# Altium schematic symbol library IC-4XXX.SchLib: 9 symbols
Pins are listed as number, name and electrical type; pins without a type are passive.

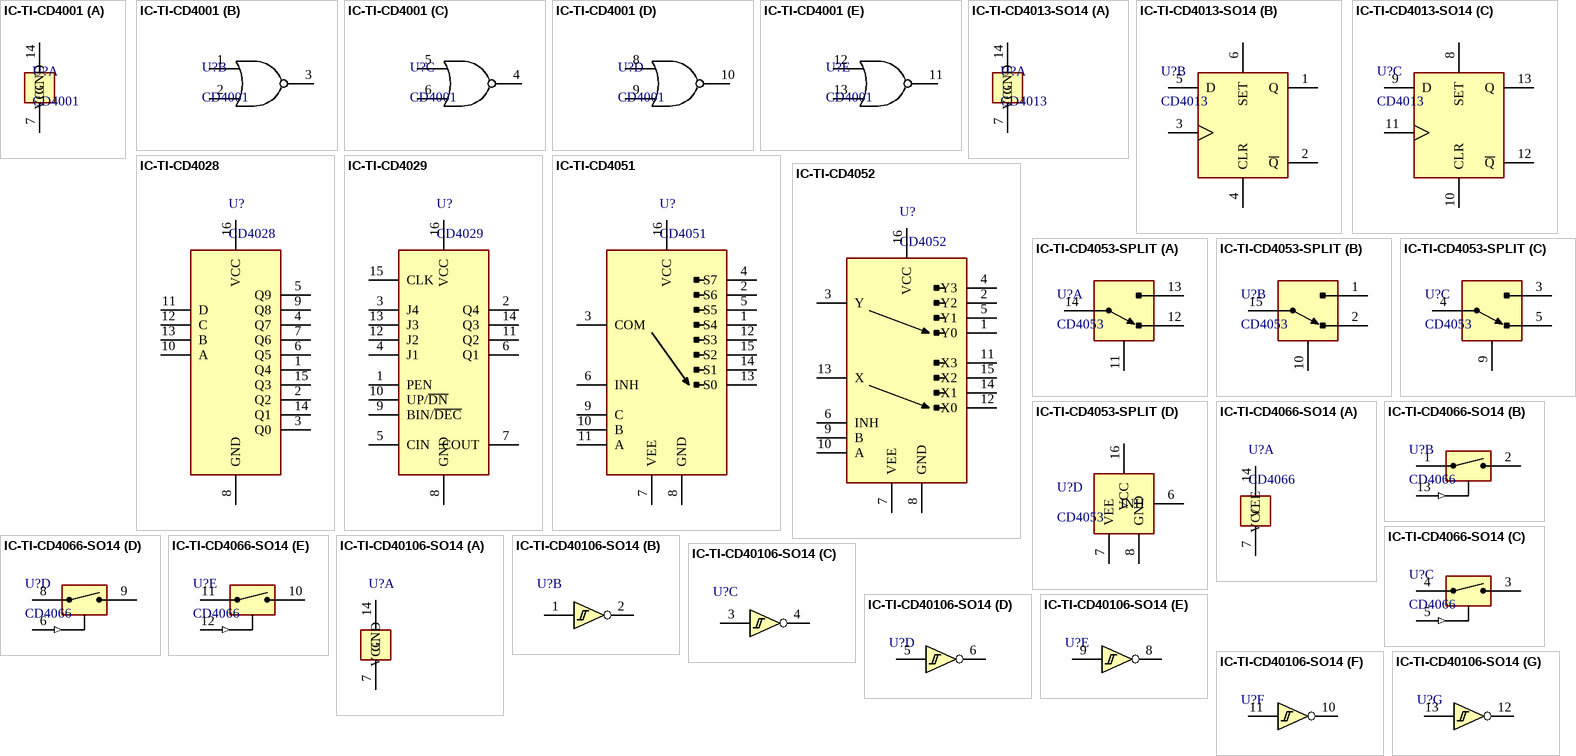
[diagram p0: symbols IC-TI-CD4001 to IC-TI-CD40106-SO14]

## IC-TI-CD4001
designator U?, comment CD4001
IC,LOGIC,CMOS,4XXX,QUAD NOR GATE,CD4001
part A pins: 7 GND, 14 VCC
part B pins: 1, 2, 3
part C pins: 4, 5, 6
part D pins: 8, 9, 10
part E pins: 11, 12, 13

## IC-TI-CD4013-SO14
designator U?, comment CD4013
IC,LOGIC,CMOS,4XXX,DUAL D-FLIPFLOP,CD4013; Manufacturer 1: TI; Manufacturer Part Number 1: CD4013BM96; DIGIKEY: 296-24347-1-ND
footprint SO127P600-14N (SOIC127P600X175 14N)
part A pins: 7 GND, 14 VCC
part B pins: 1 Q, 2 ~{Q}, 3 CLK, 4 CLR, 5 D, 6 SET
part C pins: 8 SET, 9 D, 10 CLR, 11 CLK, 12 ~{Q}, 13 Q

## IC-TI-CD4028
designator U?, comment CD4028
IC,LOGIC,CMOS,4XXX,BCD TO DECIMAL DECODER
pins: 1 Q4, 2 Q2, 3 Q0, 4 Q7, 5 Q9, 6 Q5, 7 Q6, 8 GND, 9 Q8, 10 A, 11 D, 12 C, 13 B, 14 Q1, 15 Q3, 16 VCC

## IC-TI-CD4029
designator U?, comment CD4029
IC,LOGIC,CMOS,4XXX,PRESETTABLE UP/DOWN BINARY/DECIMAL COUNTER
pins: 1 PEN, 2 Q4, 3 J4, 4 J1, 5 CIN, 6 Q1, 7 COUT, 8 GND, 9 BIN/~{DEC}, 10 UP/~{DN}, 11 Q2, 12 J2, 13 J3, 14 Q3, 15 CLK, 16 VCC

## IC-TI-CD4051
designator U?, comment CD4051
IC,LOGIC,CMOS,4XXX,8 TO 1 MULTIPLEXER
pins: 1 S4, 2 S6, 3 COM, 4 S7, 5 S5, 6 INH, 7 VEE, 8 GND, 9 C, 10 B, 11 A, 12 S3, 13 S0, 14 S1, 15 S2, 16 VCC

## IC-TI-CD4052
designator U?, comment CD4052
IC,LOGIC,CMOS,4XXX,DUAL 4 TO 1 MULTIPLEXER
pins: 1 Y0, 2 Y2, 3 Y, 4 Y3, 5 Y1, 6 INH, 7 VEE, 8 GND, 9 B, 10 A, 11 X3, 12 X0, 13 X, 14 X1, 15 X2, 16 VCC

## IC-TI-CD4053-SPLIT
designator U?, comment CD4053
IC,LOGIC,CMOS,4XXX,TRIPLE 2:1 MUX,SPLIT BLOCKS
footprint SO127P600-16N (SO16)
part A pins: 11 X3, 12 X0, 13 X, 14 X1
part B pins: 1 Y0, 2 Y2, 10 A, 15 X2
part C pins: 3 Y, 4 Y3, 5 Y1, 9 B
part D pins: 6 INH, 7 VEE, 8 GND, 16 VCC

## IC-TI-CD4066-SO14
designator U?, comment CD4066
IC,ANALOG,4XSPST ANALOG SWITCH,NO,TI,CD4016,SO14; Manufacturer Part Number 1: CD4066BM96; DIGIKEY: 296-14475-1-ND; Manufacturer 1: TI
footprint SO127P600-14N (SOIC127P600X175 14N)
part A pins: 7 VEE (power), 14 VCC (power)
part B pins: 1, 2, 13 (in)
part C pins: 3, 4, 5 (in)
part D pins: 6 (in), 8, 9
part E pins: 10, 11, 12 (in)

## IC-TI-CD40106-SO14
designator U?, comment CD40106  (value not drawn)
IC,LOGIC,CMOS.4XXX,HEX SCHMITTTRIGGER,CD40106,SO14; Manufacturer 1: ONSEMI; Manufacturer Part Number 1: MC74AC14DR2G; DIGIKEY: MC74AC14DR2GOSCT-ND
part A pins: 7 GND, 14 VCC
part B pins: 1, 2
part C pins: 3, 4
part D pins: 5, 6
part E pins: 8, 9
part F pins: 10, 11
part G pins: 12, 13